# EAGLE library part TMAG5273A1QDBVT (library 2023-03-17_22-34-24_Library)
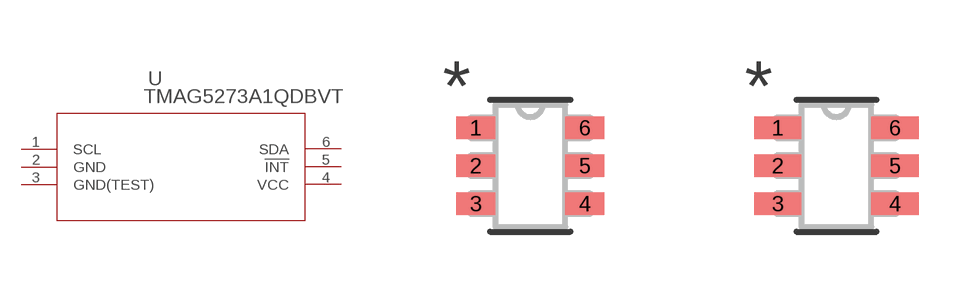
[diagram p0: symbol with the pads of SOT23-6_DBV_TEX; footprints SOT23-6_DBV_TEX, SOT23-6_DBV_TEX-M]

Designator prefix U

## TMAG5273A1QDBVTSOT23-6_DBV_TEX (Copyright: Copyright (C) 2023 Ultra Librarian. All rights reserved.; Manufacturer_Part_Number: TMAG5273A1QDBVT; Mfr_Name: Texas Instruments)  [SOT23-6_DBV_TEX]
1  SCL
2  GND  pas
3  GND(TEST)  in
4  VCC  pwr
5  !INT
6  SDA

## TMAG5273A1QDBVTSOT23-6_DBV_TEX-M (Copyright: Copyright (C) 2023 Ultra Librarian. All rights reserved.; Manufacturer_Part_Number: TMAG5273A1QDBVT; Mfr_Name: Texas Instruments)  [SOT23-6_DBV_TEX-M]
Pads as for SOT23-6_DBV_TEX

## TMAG5273A1QDBVTSOT23-6_DBV_TEX-L (Copyright: Copyright (C) 2023 Ultra Librarian. All rights reserved.; Manufacturer_Part_Number: TMAG5273A1QDBVT; Mfr_Name: Texas Instruments)  [SOT23-6_DBV_TEX-L]
Pads as for SOT23-6_DBV_TEX

## Footprint SOT23-6_DBV_TEX (pad centres in mm)
smd 0.978 x 0.559: 1 -1.365,0.95; 2 -1.365,0; 3 -1.365,-0.95; 4 1.365,-0.95; 5 1.365,0; 6 1.365,0.95

## Footprint SOT23-6_DBV_TEX-M (pad centres in mm)
smd 1.181 x 0.559: 1 -1.467,0.95; 2 -1.467,0; 3 -1.467,-0.95; 4 1.467,-0.95; 5 1.467,0; 6 1.467,0.95

## Footprint SOT23-6_DBV_TEX-L (pad centres in mm)
smd 0.775 x 0.508: 1 -1.264,0.95; 2 -1.264,0; 3 -1.264,-0.95; 4 1.264,-0.95; 5 1.264,0; 6 1.264,0.95